# Altium footprint library CUI_PJ-059BH.PcbLib: 1 footprints
Each footprint in its own frame and in the unit in brackets; x right, y up, seen from the top. Pads: shape width x height; smd on the part's side, far side on the other; paste and mask are expansions set on the pad; w line width, h text height; cw(c..) or ccw(c..) is an arc to the next point about the centre after c.
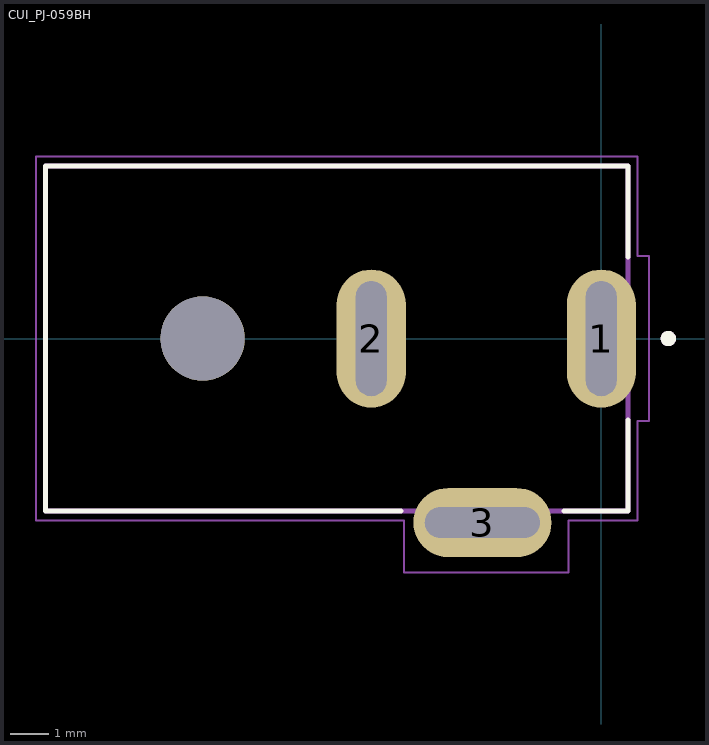
[diagram p0: the footprint, top view; thin cyan lines are the x and y axes]

## CUI_PJ-059BH [mm]
height 11.5
pads (4):
  oval 1.8x3.6 hole 0.8 slot 3 at 90 deg: 1(0,0) 2(-6,0)
  oval 3.6x1.8 hole 0.8 slot 3 at 0 deg: 3(-3.1,-4.8)
  round 2.2 hole 2.2 unplated: ""(-10.4,0)
Top Overlay:
  circle w0.2: c1.75,0 r0.1
  lines w0.127: -5.22,-4.5 -14.5,-4.5 -14.5,4.5 0.7,4.5 0.7,2.12 ; -0.98,-4.5 0.7,-4.5 0.7,-2.12
Mechanical 13:
  circle w0.2: c1.75,0 r0.1
  lines w0.127: -14.5,-4.5 -14.5,4.5 0.7,4.5 0.7,-4.5 -14.5,-4.5
Mechanical 15:
  lines w0.05: -14.75,-4.75 -14.75,4.75 0.95,4.75 0.95,2.15 1.25,2.15 1.25,-2.15 0.95,-2.15 0.95,-4.75 -0.85,-4.75 -0.85,-6.1 -5.15,-6.1 -5.15,-4.75 -14.75,-4.75
3D body "PJ-059BH--3DModel-STEP-269445.STEP": height 11, standoff -3.5, extent -14.351,-4.827 0.849,4.573